# EAGLE library part S6B-ZR(LF)(SN) (library Headers)
CONN HEADER R/A 6POS 1.5MM Manufacturer's datasheet <http://www.jst-mfg.com/product/pdf/eng/eZH.pdf>
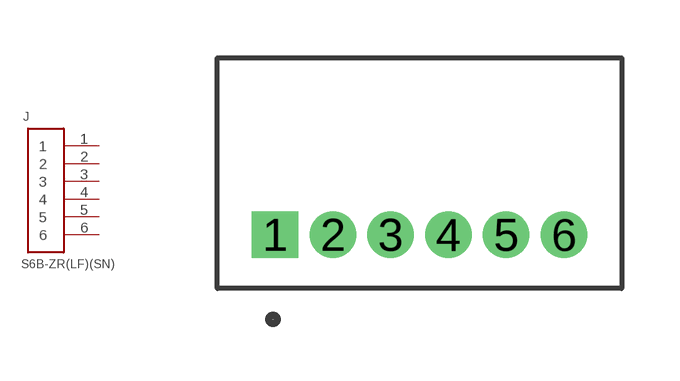
[diagram p45: symbol with the pads of S6B-ZR(LF)(SN); footprint S6B-ZR(LF)(SN)]

Designator prefix J

## S6B-ZR(LF)(SN) (CREATED_BY: PCBLayout.com; DIGIKEY_PARTNO: 455-1673-ND; MANUFACTURER: S6B-ZR(LF)(SN); MPN: S6B-ZR(LF)(SN))  [S6B-ZR(LF)(SN)]
1  1  pas
2  2  pas
3  3  pas
4  4  pas
5  5  pas
6  6  pas

## Footprint S6B-ZR(LF)(SN) (pad centres in mm)
drill 0.7 square: 1 -3.75,0
drill 0.7: 2 -2.25,0; 3 -0.75,0; 4 0.75,0; 5 2.25,0; 6 3.75,0